# EAGLE library part RT5350F (library vocore-v1.0)
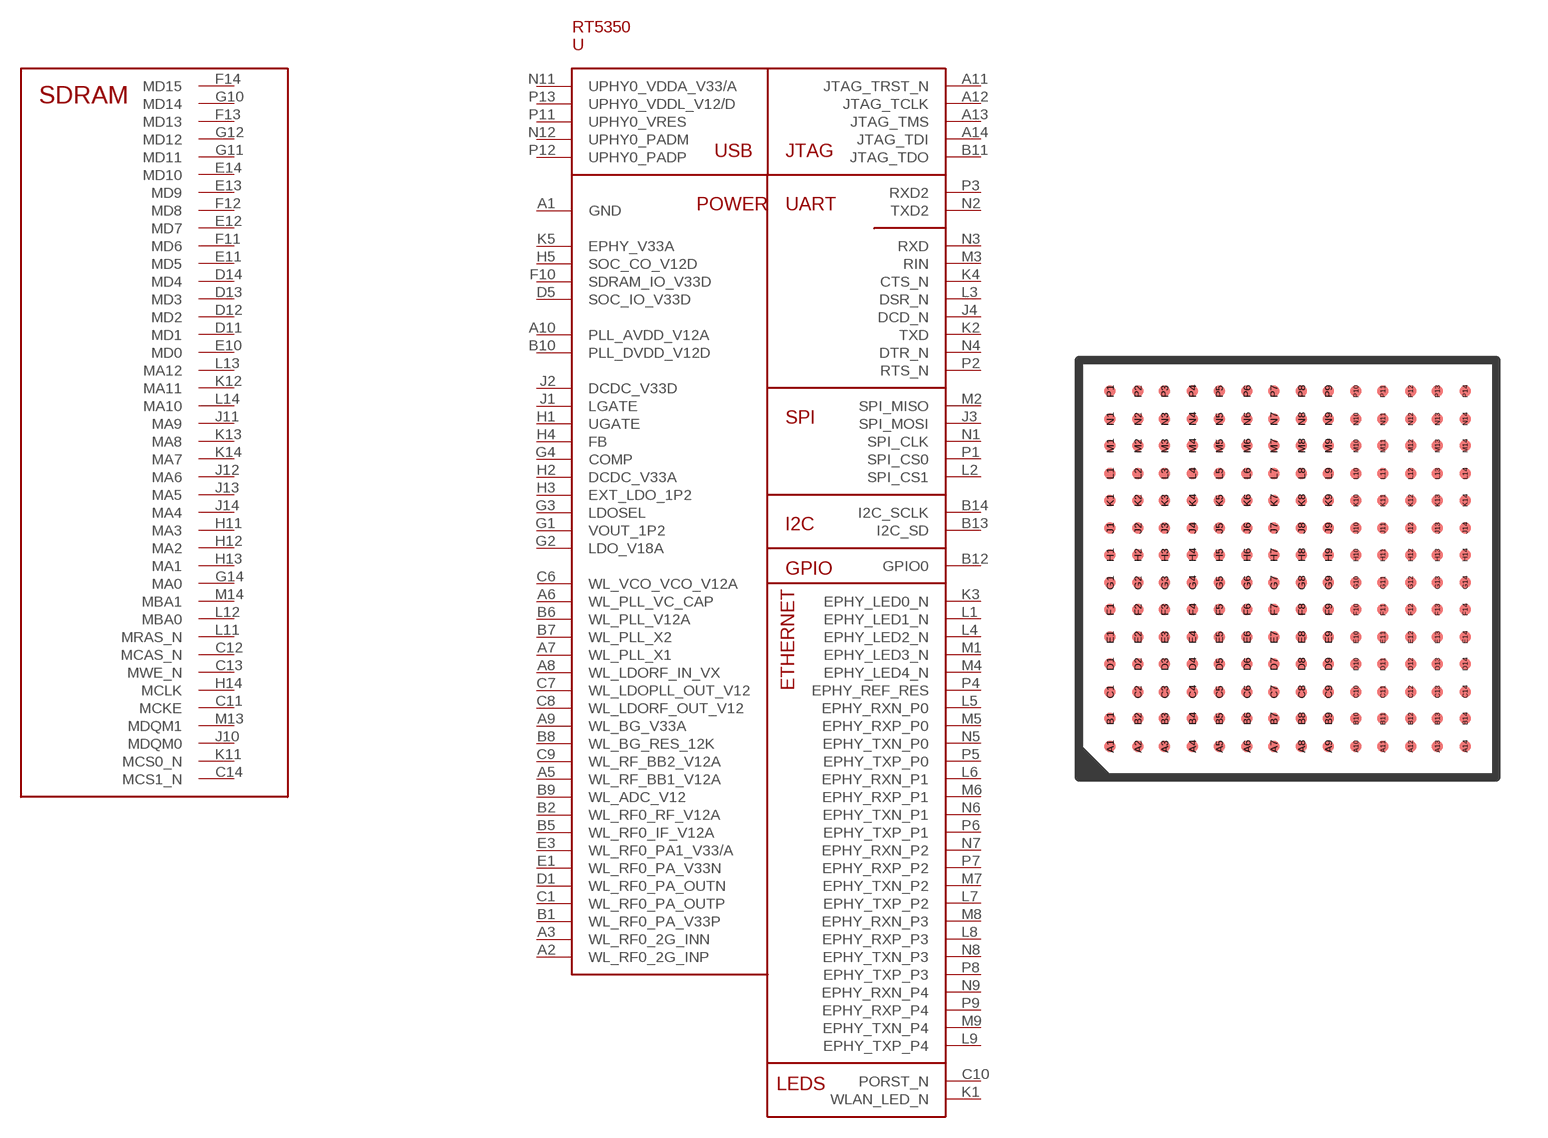
[diagram p0: symbol with the pads of TFBGA196_1PRIMARY; footprint TFBGA196_1PRIMARY]

Designator prefix -

## RT5350FTFBGA196  [TFBGA196_1PRIMARY]
A1  GND
A2  WL_RF0_2G_INP
A3  WL_RF0_2G_INN
A5  WL_RF_BB1_V12A
A6  WL_PLL_VC_CAP
A7  WL_PLL_X1
A8  WL_LDORF_IN_VX
A9  WL_BG_V33A
A10  PLL_AVDD_V12A
A11  JTAG_TRST_N
A12  JTAG_TCLK
A13  JTAG_TMS
A14  JTAG_TDI
B1  WL_RF0_PA_V33P
B2  WL_RF0_RF_V12A
B5  WL_RF0_IF_V12A
B6  WL_PLL_V12A
B7  WL_PLL_X2
B8  WL_BG_RES_12K
B9  WL_ADC_V12
B10  PLL_DVDD_V12D
B11  JTAG_TDO
B12  GPIO0
B13  I2C_SD
B14  I2C_SCLK
C1  WL_RF0_PA_OUTP
C6  WL_VCO_VCO_V12A
C7  WL_LDOPLL_OUT_V12
C8  WL_LDORF_OUT_V12
C9  WL_RF_BB2_V12A
C10  PORST_N
C11  MCKE
C12  MCAS_N
C13  MWE_N
C14  MCS1_N
D1  WL_RF0_PA_OUTN
D5  SOC_IO_V33D
D11  MD1
D12  MD2
D13  MD3
D14  MD4
E1  WL_RF0_PA_V33N
E3  WL_RF0_PA1_V33/A
E10  MD0
E11  MD5
E12  MD7
E13  MD9
E14  MD10
F10  SDRAM_IO_V33D
F11  MD6
F12  MD8
F13  MD13
F14  MD15
G1  VOUT_1P2
G2  LDO_V18A
G3  LDOSEL
G4  COMP
G10  MD14
G11  MD11
G12  MD12
G14  MA0
H1  UGATE
H2  DCDC_V33A
H3  EXT_LDO_1P2
H4  FB
H5  SOC_CO_V12D
H11  MA3
H12  MA2
H13  MA1
H14  MCLK
J1  LGATE
J2  DCDC_V33D
J3  SPI_MOSI
J4  DCD_N
J10  MDQM0
J11  MA9
J12  MA6
J13  MA5
J14  MA4
K1  WLAN_LED_N
K2  TXD
K3  EPHY_LED0_N
K4  CTS_N
K5  EPHY_V33A
K11  MCS0_N
K12  MA11
K13  MA8
K14  MA7
L1  EPHY_LED1_N
L2  SPI_CS1
L3  DSR_N
L4  EPHY_LED2_N
L5  EPHY_RXN_P0
L6  EPHY_RXN_P1
L7  EPHY_TXP_P2
L8  EPHY_RXP_P3
L9  EPHY_TXP_P4
L11  MRAS_N
L12  MBA0
L13  MA12
L14  MA10
M1  EPHY_LED3_N
M2  SPI_MISO
M3  RIN
M4  EPHY_LED4_N
M5  EPHY_RXP_P0
M6  EPHY_RXP_P1
M7  EPHY_TXN_P2
M8  EPHY_RXN_P3
M9  EPHY_TXN_P4
M13  MDQM1
M14  MBA1
N1  SPI_CLK
N2  TXD2
N3  RXD
N4  DTR_N
N5  EPHY_TXN_P0
N6  EPHY_TXN_P1
N7  EPHY_RXN_P2
N8  EPHY_TXN_P3
N9  EPHY_RXN_P4
N11  UPHY0_VDDA_V33/A
N12  UPHY0_PADM
P1  SPI_CS0
P2  RTS_N
P3  RXD2
P4  EPHY_REF_RES
P5  EPHY_TXP_P0
P6  EPHY_TXP_P1
P7  EPHY_RXP_P2
P8  EPHY_TXP_P3
P9  EPHY_RXP_P4
P11  UPHY0_VRES
P12  UPHY0_PADP
P13  UPHY0_VDDL_V12/D

## Footprint TFBGA196_1PRIMARY (pad centres in mm)
Original name TFBGA196
smd 0.33 x 0.33: A1 1.143,1.143; A2 1.956,1.143; A3 2.743,1.143; A4 3.556,1.143; A5 4.343,1.143; A6 5.156,1.143; A7 5.944,1.143; A8 6.756,1.143; A9 7.544,1.143; A10 8.357,1.143; A11 9.144,1.143; A12 9.957,1.143; A13 10.744,1.143; A14 11.557,1.143; B1 1.143,1.956; B2 1.956,1.956; B3 2.743,1.956; B4 3.556,1.956; B5 4.343,1.956; B6 5.156,1.956; B7 5.944,1.956; B8 6.756,1.956; B9 7.544,1.956; B10 8.357,1.956; B11 9.144,1.956; B12 9.957,1.956; B13 10.744,1.956; B14 11.557,1.956; C1 1.143,2.743; C2 1.956,2.743; C3 2.743,2.743; C4 3.556,2.743; C5 4.343,2.743; C6 5.156,2.743; C7 5.944,2.743; C8 6.756,2.743; C9 7.544,2.743; C10 8.357,2.743; C11 9.144,2.743; C12 9.957,2.743; C13 10.744,2.743; C14 11.557,2.743; D1 1.143,3.556; D2 1.956,3.556; D3 2.743,3.556; D4 3.556,3.556; D5 4.343,3.556; D6 5.156,3.556; D7 5.944,3.556; D8 6.756,3.556; D9 7.544,3.556; D10 8.357,3.556; D11 9.144,3.556; D12 9.957,3.556; D13 10.744,3.556; D14 11.557,3.556; E1 1.143,4.343; E2 1.956,4.343; E3 2.743,4.343; E4 3.556,4.343; E5 4.343,4.343; E6 5.156,4.343; E7 5.944,4.343; E8 6.756,4.343; E9 7.544,4.343; E10 8.357,4.343; E11 9.144,4.343; E12 9.957,4.343; E13 10.744,4.343; E14 11.557,4.343; F1 1.143,5.156; F2 1.956,5.156; F3 2.743,5.156; F4 3.556,5.156; F5 4.343,5.156; F6 5.156,5.156; F7 5.944,5.156; F8 6.756,5.156; F9 7.544,5.156; F10 8.357,5.156; F11 9.144,5.156; F12 9.957,5.156; F13 10.744,5.156; F14 11.557,5.156; G1 1.143,5.944; G2 1.956,5.944; G3 2.743,5.944; G4 3.556,5.944; G5 4.343,5.944; G6 5.156,5.944; G7 5.944,5.944; G8 6.756,5.944; G9 7.544,5.944; G10 8.357,5.944; G11 9.144,5.944; G12 9.957,5.944; G13 10.744,5.944; G14 11.557,5.944; H1 1.143,6.756; H2 1.956,6.756; H3 2.743,6.756; H4 3.556,6.756; H5 4.343,6.756; H6 5.156,6.756; H7 5.944,6.756; H8 6.756,6.756; H9 7.544,6.756; H10 8.357,6.756; H11 9.144,6.756; H12 9.957,6.756; H13 10.744,6.756; H14 11.557,6.756; J1 1.143,7.544; J2 1.956,7.544; J3 2.743,7.544; J4 3.556,7.544; J5 4.343,7.544; J6 5.156,7.544; J7 5.944,7.544; J8 6.756,7.544; J9 7.544,7.544; J10 8.357,7.544; J11 9.144,7.544; J12 9.957,7.544; J13 10.744,7.544; J14 11.557,7.544; K1 1.143,8.357; K2 1.956,8.357; K3 2.743,8.357; K4 3.556,8.357; K5 4.343,8.357; K6 5.156,8.357; K7 5.944,8.357; K8 6.756,8.357; K9 7.544,8.357; K10 8.357,8.357; K11 9.144,8.357; K12 9.957,8.357; K13 10.744,8.357; K14 11.557,8.357; L1 1.143,9.144; L2 1.956,9.144; L3 2.743,9.144; L4 3.556,9.144; L5 4.343,9.144; L6 5.156,9.144; L7 5.944,9.144; L8 6.756,9.144; L9 7.544,9.144; L10 8.357,9.144; L11 9.144,9.144; L12 9.957,9.144; L13 10.744,9.144; L14 11.557,9.144; M1 1.143,9.957; M2 1.956,9.957; M3 2.743,9.957; M4 3.556,9.957; M5 4.343,9.957; M6 5.156,9.957; M7 5.944,9.957; M8 6.756,9.957; M9 7.544,9.957; M10 8.357,9.957; M11 9.144,9.957; M12 9.957,9.957; M13 10.744,9.957; M14 11.557,9.957; N1 1.143,10.744; N2 1.956,10.744; N3 2.743,10.744; N4 3.556,10.744; N5 4.343,10.744; N6 5.156,10.744; N7 5.944,10.744; N8 6.756,10.744; N9 7.544,10.744; N10 8.357,10.744; N11 9.144,10.744; N12 9.957,10.744; N13 10.744,10.744; N14 11.557,10.744; P1 1.143,11.557; P2 1.956,11.557; P3 2.743,11.557; P4 3.556,11.557; P5 4.343,11.557; P6 5.156,11.557; P7 5.944,11.557; P8 6.756,11.557; P9 7.544,11.557; P10 8.357,11.557; P11 9.144,11.557; P12 9.957,11.557; P13 10.744,11.557; P14 11.557,11.557